# Altium schematic symbol library W 外购成品模块.SCHLIB: 4 symbols
Pins are listed as number, name and electrical type; pins without a type are passive.

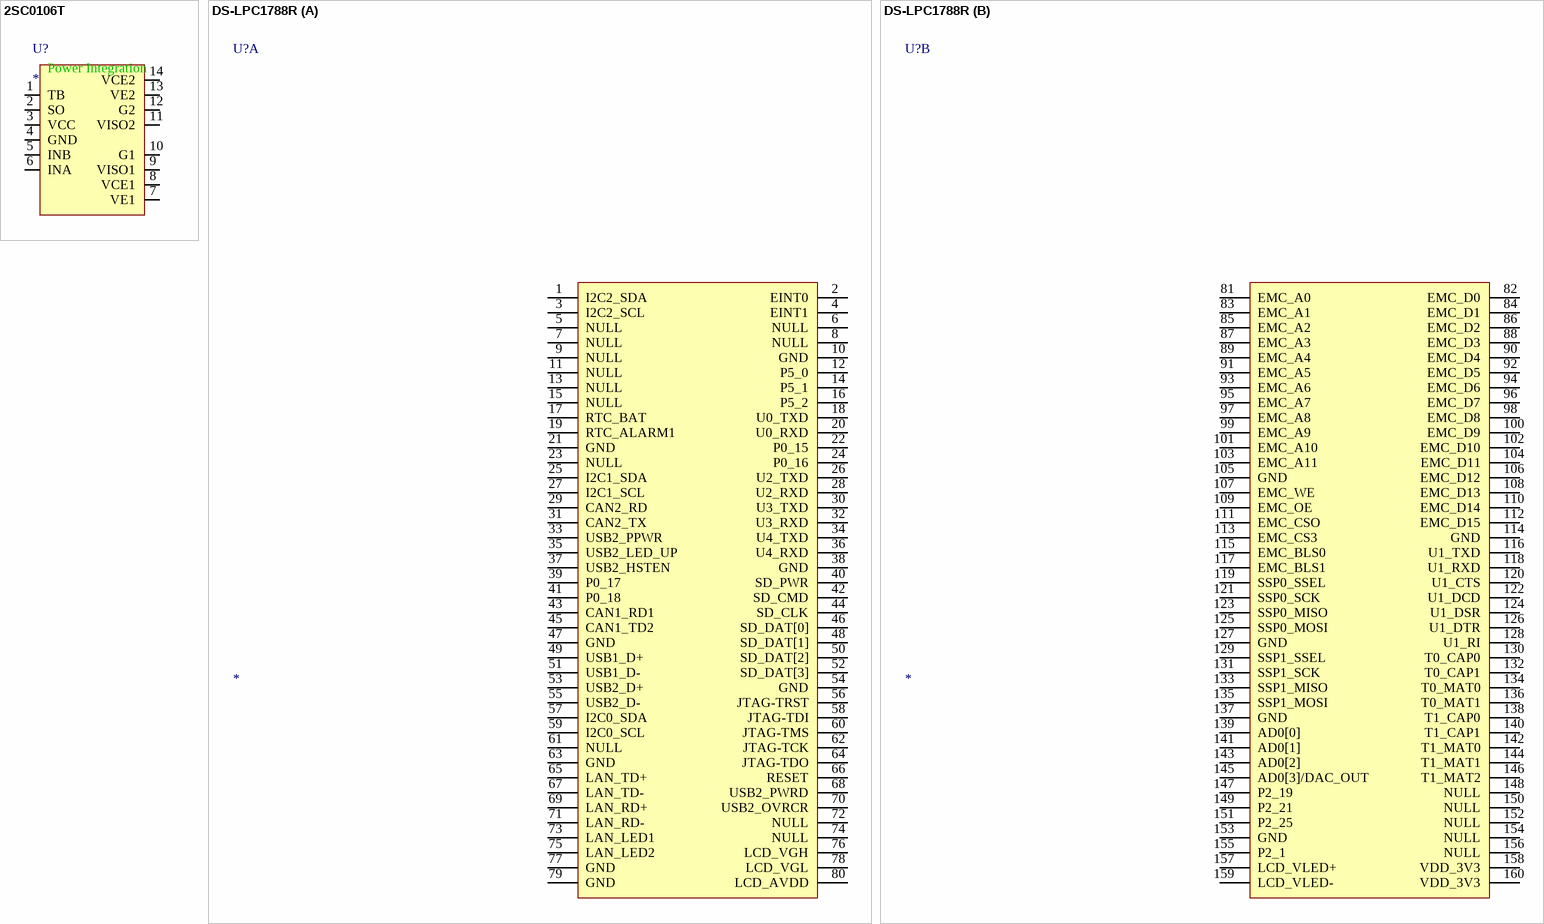
[diagram p0: symbols 2SC0106T to DS-LPC1788R]

## 2SC0106T
designator U?
pins: 1 TB, 2 SO, 3 VCC, 4 GND, 5 INB, 6 INA, 7 VE1, 8 VCE1, 9 VISO1, 10 G1, 11 VISO2, 12 G2, 13 VE2, 14 VCE2
text: Power Integration

## DS-LPC1788R
designator U?
核心板
part A pins: 1 I2C2_SDA, 2 EINT0, 3 I2C2_SCL, 4 EINT1, 5 NULL, 6 NULL, 7 NULL, 8 NULL, 9 NULL, 10 GND, 11 NULL, 12 P5_0, 13 NULL, 14 P5_1, 15 NULL, 16 P5_2, 17 RTC_BAT, 18 U0_TXD, 19 RTC_ALARM1, 20 U0_RXD, 21 GND, 22 P0_15, 23 NULL, 24 P0_16, 25 I2C1_SDA, 26 U2_TXD, 27 I2C1_SCL, 28 U2_RXD, 29 CAN2_RD, 30 U3_TXD, 31 CAN2_TX, 32 U3_RXD, 33 USB2_PPWR, 34 U4_TXD, 35 USB2_LED_UP, 36 U4_RXD, 37 USB2_HSTEN, 38 GND, 39 P0_17, 40 SD_PWR, 41 P0_18, 42 SD_CMD, 43 CAN1_RD1, 44 SD_CLK, 45 CAN1_TD2, 46 SD_DAT[0], 47 GND, 48 SD_DAT[1], 49 USB1_D+, 50 SD_DAT[2], 51 USB1_D-, 52 SD_DAT[3], 53 USB2_D+, 54 GND, 55 USB2_D-, 56 JTAG-TRST, 57 I2C0_SDA, 58 JTAG-TDI, 59 I2C0_SCL, 60 JTAG-TMS, 61 NULL, 62 JTAG-TCK, 63 GND, 64 JTAG-TDO, 65 LAN_TD+, 66 RESET, 67 LAN_TD-, 68 USB2_PWRD, 69 LAN_RD+, 70 USB2_OVRCR, 71 LAN_RD-, 72 NULL, 73 LAN_LED1, 74 NULL, 75 LAN_LED2, 76 LCD_VGH, 77 GND, 78 LCD_VGL, 79 GND, 80 LCD_AVDD
part B pins: 81 EMC_A0, 82 EMC_D0, 83 EMC_A1, 84 EMC_D1, 85 EMC_A2, 86 EMC_D2, 87 EMC_A3, 88 EMC_D3, 89 EMC_A4, 90 EMC_D4, 91 EMC_A5, 92 EMC_D5, 93 EMC_A6, 94 EMC_D6, 95 EMC_A7, 96 EMC_D7, 97 EMC_A8, 98 EMC_D8, 99 EMC_A9, 100 EMC_D9, 101 EMC_A10, 102 EMC_D10, 103 EMC_A11, 104 EMC_D11, 105 GND, 106 EMC_D12, 107 EMC_WE, 108 EMC_D13, 109 EMC_OE, 110 EMC_D14, 111 EMC_CSO, 112 EMC_D15, 113 EMC_CS3, 114 GND, 115 EMC_BLS0, 116 U1_TXD, 117 EMC_BLS1, 118 U1_RXD, 119 SSP0_SSEL, 120 U1_CTS, 121 SSP0_SCK, 122 U1_DCD, 123 SSP0_MISO, 124 U1_DSR, 125 SSP0_MOSI, 126 U1_DTR, 127 GND, 128 U1_RI, 129 SSP1_SSEL, 130 T0_CAP0, 131 SSP1_SCK, 132 T0_CAP1, 133 SSP1_MISO, 134 T0_MAT0, 135 SSP1_MOSI, 136 T0_MAT1, 137 GND, 138 T1_CAP0, 139 AD0[0], 140 T1_CAP1, 141 AD0[1], 142 T1_MAT0, 143 AD0[2], 144 T1_MAT1, 145 AD0[3]/DAC_OUT, 146 T1_MAT2, 147 P2_19, 148 NULL, 149 P2_21, 150 NULL, 151 P2_25, 152 NULL, 153 GND, 154 NULL, 155 P2_1, 156 NULL, 157 LCD_VLED+, 158 VDD_3V3, 159 LCD_VLED-, 160 VDD_3V3

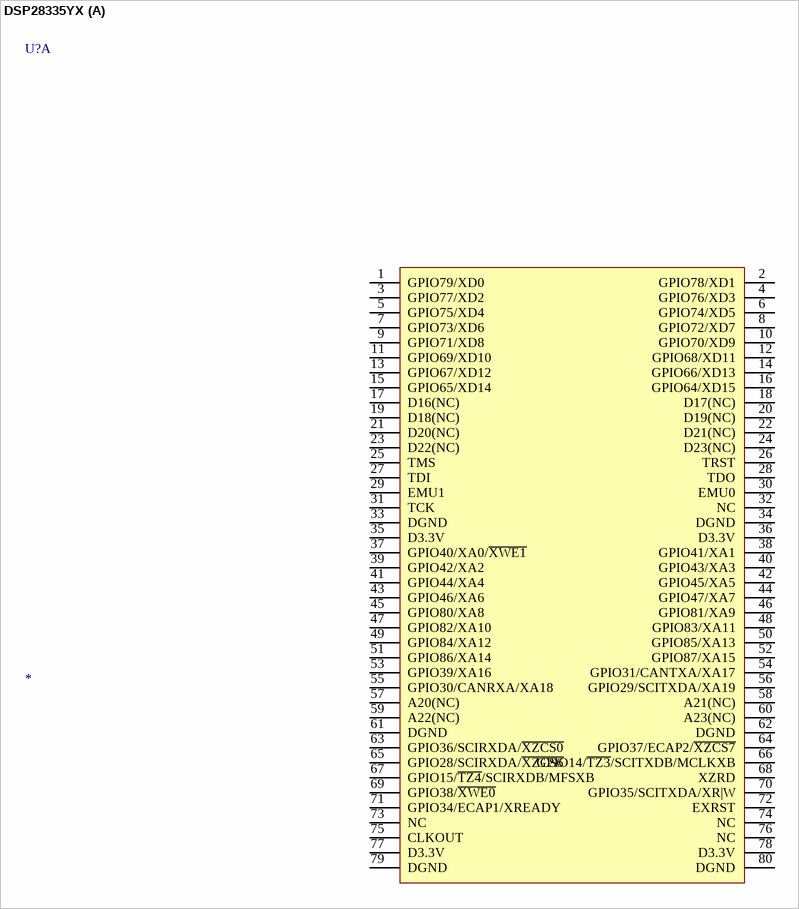
[diagram p1: symbol DSP28335YX]

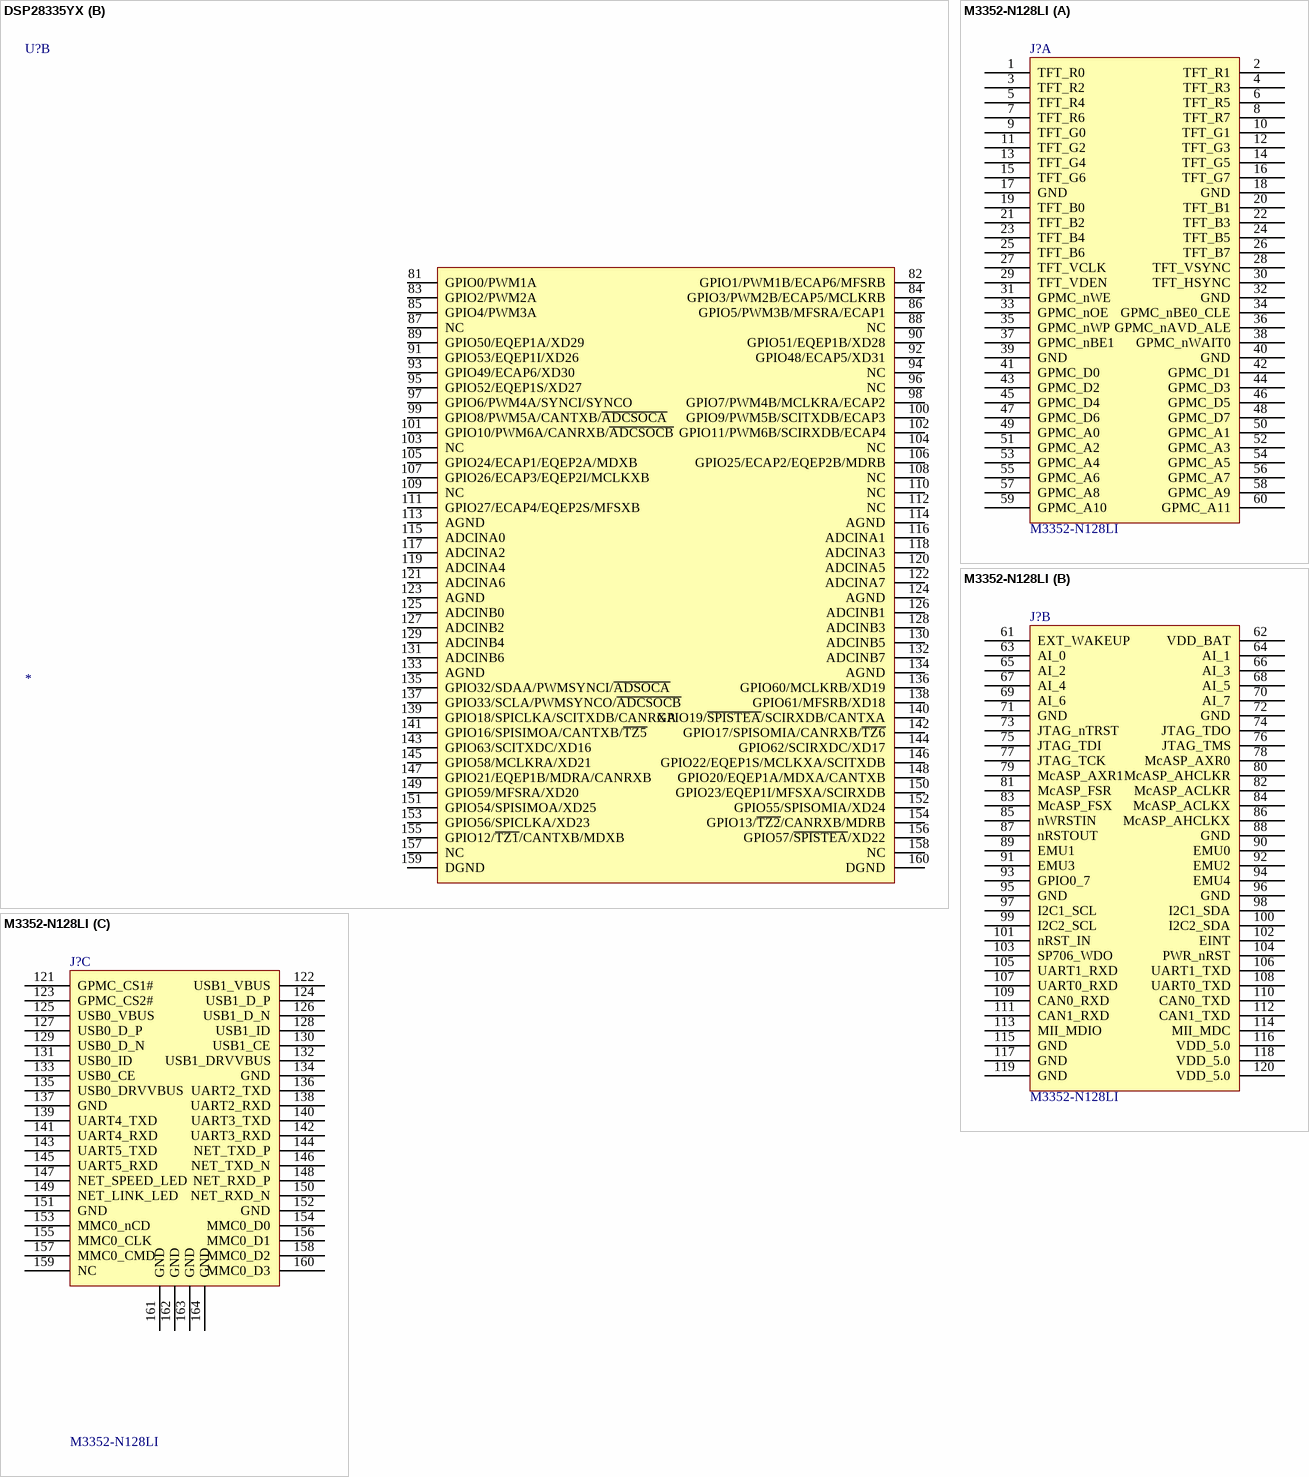
[diagram p2: symbols DSP28335YX to M3352-N128LI]

## DSP28335YX
designator U?
part A pins: 1 GPIO79/XD0, 2 GPIO78/XD1, 3 GPIO77/XD2, 4 GPIO76/XD3, 5 GPIO75/XD4, 6 GPIO74/XD5, 7 GPIO73/XD6, 8 GPIO72/XD7, 9 GPIO71/XD8, 10 GPIO70/XD9, 11 GPIO69/XD10, 12 GPIO68/XD11, 13 GPIO67/XD12, 14 GPIO66/XD13, 15 GPIO65/XD14, 16 GPIO64/XD15, 17 D16(NC), 18 D17(NC), 19 D18(NC), 20 D19(NC), 21 D20(NC), 22 D21(NC), 23 D22(NC), 24 D23(NC), 25 TMS, 26 TRST, 27 TDI, 28 TDO, 29 EMU1, 30 EMU0, 31 TCK, 32 NC, 33 DGND, 34 DGND, 35 D3.3V, 36 D3.3V, 37 GPIO40/XA0/~{XWE1}, 38 GPIO41/XA1, 39 GPIO42/XA2, 40 GPIO43/XA3, 41 GPIO44/XA4, 42 GPIO45/XA5, 43 GPIO46/XA6, 44 GPIO47/XA7, 45 GPIO80/XA8, 46 GPIO81/XA9, 47 GPIO82/XA10, 48 GPIO83/XA11, 49 GPIO84/XA12, 50 GPIO85/XA13, 51 GPIO86/XA14, 52 GPIO87/XA15, 53 GPIO39/XA16, 54 GPIO31/CANTXA/XA17, 55 GPIO30/CANRXA/XA18, 56 GPIO29/SCITXDA/XA19, 57 A20(NC), 58 A21(NC), 59 A22(NC), 60 A23(NC), 61 DGND, 62 DGND, 63 GPIO36/SCIRXDA/~{XZCS0}, 64 GPIO37/ECAP2/~{XZCS7}, 65 GPIO28/SCIRXDA/~{XZCS6}, 66 GPIO14/~{TZ3}/SCITXDB/MCLKXB, 67 GPIO15/~{TZ4}/SCIRXDB/MFSXB, 68 XZRD, 69 GPIO38/~{XWE0}, 70 GPIO35/SCITXDA/XR|W, 71 GPIO34/ECAP1/XREADY, 72 EXRST, 73 NC, 74 NC, 75 CLKOUT, 76 NC, 77 D3.3V, 78 D3.3V, 79 DGND, 80 DGND
part B pins: 81 GPIO0/PWM1A, 82 GPIO1/PWM1B/ECAP6/MFSRB, 83 GPIO2/PWM2A, 84 GPIO3/PWM2B/ECAP5/MCLKRB, 85 GPIO4/PWM3A, 86 GPIO5/PWM3B/MFSRA/ECAP1, 87 NC, 88 NC, 89 GPIO50/EQEP1A/XD29, 90 GPIO51/EQEP1B/XD28, 91 GPIO53/EQEP1I/XD26, 92 GPIO48/ECAP5/XD31, 93 GPIO49/ECAP6/XD30, 94 NC, 95 GPIO52/EQEP1S/XD27, 96 NC, 97 GPIO6/PWM4A/SYNCI/SYNCO, 98 GPIO7/PWM4B/MCLKRA/ECAP2, 99 GPIO8/PWM5A/CANTXB/~{ADCSOCA}, 100 GPIO9/PWM5B/SCITXDB/ECAP3, 101 GPIO10/PWM6A/CANRXB/~{ADCSOCB}, 102 GPIO11/PWM6B/SCIRXDB/ECAP4, 103 NC, 104 NC, 105 GPIO24/ECAP1/EQEP2A/MDXB, 106 GPIO25/ECAP2/EQEP2B/MDRB, 107 GPIO26/ECAP3/EQEP2I/MCLKXB, 108 NC, 109 NC, 110 NC, 111 GPIO27/ECAP4/EQEP2S/MFSXB, 112 NC, 113 AGND, 114 AGND, 115 ADCINA0, 116 ADCINA1, 117 ADCINA2, 118 ADCINA3, 119 ADCINA4, 120 ADCINA5, 121 ADCINA6, 122 ADCINA7, 123 AGND, 124 AGND, 125 ADCINB0, 126 ADCINB1, 127 ADCINB2, 128 ADCINB3, 129 ADCINB4, 130 ADCINB5, 131 ADCINB6, 132 ADCINB7, 133 AGND, 134 AGND, 135 GPIO32/SDAA/PWMSYNCI/~{ADSOCA}, 136 GPIO60/MCLKRB/XD19, 137 GPIO33/SCLA/PWMSYNCO/~{ADCSOCB}, 138 GPIO61/MFSRB/XD18, 139 GPIO18/SPICLKA/SCITXDB/CANRXA, 140 GPIO19/~{SPISTEA}/SCIRXDB/CANTXA, 141 GPIO16/SPISIMOA/CANTXB/~{TZ5}, 142 GPIO17/SPISOMIA/CANRXB/~{TZ6}, 143 GPIO63/SCITXDC/XD16, 144 GPIO62/SCIRXDC/XD17, 145 GPIO58/MCLKRA/XD21, 146 GPIO22/EQEP1S/MCLKXA/SCITXDB, 147 GPIO21/EQEP1B/MDRA/CANRXB, 148 GPIO20/EQEP1A/MDXA/CANTXB, 149 GPIO59/MFSRA/XD20, 150 GPIO23/EQEP1I/MFSXA/SCIRXDB, 151 GPIO54/SPISIMOA/XD25, 152 GPIO55/SPISOMIA/XD24, 153 GPIO56/SPICLKA/XD23, 154 GPIO13/~{TZ2}/CANRXB/MDRB, 155 GPIO12/~{TZ1}/CANTXB/MDXB, 156 GPIO57/~{SPISTEA}/XD22, 157 NC, 158 NC, 159 DGND, 160 DGND

## M3352-N128LI
designator J?
part A pins: 1 TFT_R0, 2 TFT_R1, 3 TFT_R2, 4 TFT_R3, 5 TFT_R4, 6 TFT_R5, 7 TFT_R6, 8 TFT_R7, 9 TFT_G0, 10 TFT_G1, 11 TFT_G2, 12 TFT_G3, 13 TFT_G4, 14 TFT_G5, 15 TFT_G6, 16 TFT_G7, 17 GND, 18 GND, 19 TFT_B0, 20 TFT_B1, 21 TFT_B2, 22 TFT_B3, 23 TFT_B4, 24 TFT_B5, 25 TFT_B6, 26 TFT_B7, 27 TFT_VCLK, 28 TFT_VSYNC, 29 TFT_VDEN, 30 TFT_HSYNC, 31 GPMC_nWE, 32 GND, 33 GPMC_nOE, 34 GPMC_nBE0_CLE, 35 GPMC_nWP, 36 GPMC_nAVD_ALE, 37 GPMC_nBE1, 38 GPMC_nWAIT0, 39 GND, 40 GND, 41 GPMC_D0, 42 GPMC_D1, 43 GPMC_D2, 44 GPMC_D3, 45 GPMC_D4, 46 GPMC_D5, 47 GPMC_D6, 48 GPMC_D7, 49 GPMC_A0, 50 GPMC_A1, 51 GPMC_A2, 52 GPMC_A3, 53 GPMC_A4, 54 GPMC_A5, 55 GPMC_A6, 56 GPMC_A7, 57 GPMC_A8, 58 GPMC_A9, 59 GPMC_A10, 60 GPMC_A11
part B pins: 61 EXT_WAKEUP, 62 VDD_BAT, 63 AI_0, 64 AI_1, 65 AI_2, 66 AI_3, 67 AI_4, 68 AI_5, 69 AI_6, 70 AI_7, 71 GND, 72 GND, 73 JTAG_nTRST, 74 JTAG_TDO, 75 JTAG_TDI, 76 JTAG_TMS, 77 JTAG_TCK, 78 McASP_AXR0, 79 McASP_AXR1, 80 McASP_AHCLKR, 81 McASP_FSR, 82 McASP_ACLKR, 83 McASP_FSX, 84 McASP_ACLKX, 85 nWRSTIN, 86 McASP_AHCLKX, 87 nRSTOUT, 88 GND, 89 EMU1, 90 EMU0, 91 EMU3, 92 EMU2, 93 GPIO0_7, 94 EMU4, 95 GND, 96 GND, 97 I2C1_SCL, 98 I2C1_SDA, 99 I2C2_SCL, 100 I2C2_SDA, 101 nRST_IN, 102 EINT, 103 SP706_WDO, 104 PWR_nRST, 105 UART1_RXD, 106 UART1_TXD, 107 UART0_RXD, 108 UART0_TXD, 109 CAN0_RXD, 110 CAN0_TXD, 111 CAN1_RXD, 112 CAN1_TXD, 113 MII_MDIO, 114 MII_MDC, 115 GND, 116 VDD_5.0, 117 GND, 118 VDD_5.0, 119 GND, 120 VDD_5.0
part C pins: 121 GPMC_CS1#, 122 USB1_VBUS, 123 GPMC_CS2#, 124 USB1_D_P, 125 USB0_VBUS, 126 USB1_D_N, 127 USB0_D_P, 128 USB1_ID, 129 USB0_D_N, 130 USB1_CE, 131 USB0_ID, 132 USB1_DRVVBUS, 133 USB0_CE, 134 GND, 135 USB0_DRVVBUS, 136 UART2_TXD, 137 GND, 138 UART2_RXD, 139 UART4_TXD, 140 UART3_TXD, 141 UART4_RXD, 142 UART3_RXD, 143 UART5_TXD, 144 NET_TXD_P, 145 UART5_RXD, 146 NET_TXD_N, 147 NET_SPEED_LED, 148 NET_RXD_P, 149 NET_LINK_LED, 150 NET_RXD_N, 151 GND, 152 GND, 153 MMC0_nCD, 154 MMC0_D0, 155 MMC0_CLK, 156 MMC0_D1, 157 MMC0_CMD, 158 MMC0_D2, 159 NC, 160 MMC0_D3, 161 GND, 162 GND, 163 GND, 164 GND